# Altium schematic symbol library JAE.SchLib: 2 symbols
Pins are listed as number, name and electrical type; pins without a type are passive.

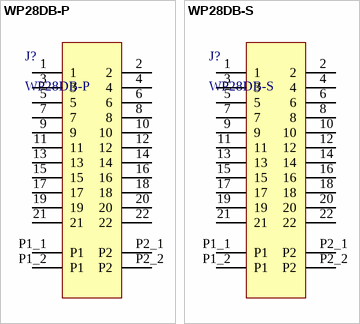
[diagram p0: symbols WP28DB-P to WP28DB-S]

## WP28DB-P
designator J?
footprint WP28DB-P
pins: 1, 2, 3, 4, 5, 6, 7, 8, 9, 10, 11, 12, 13, 14, 15, 16, 17, 18, 19, 20, 21, 22, P1_1 P1, P1_2 P1, P2_1 P2, P2_2 P2

## WP28DB-S
designator J?
footprint WP28DB-S (Connector Receptacle)
pins: 1, 2, 3, 4, 5, 6, 7, 8, 9, 10, 11, 12, 13, 14, 15, 16, 17, 18, 19, 20, 21, 22, P1_1 P1, P1_2 P1, P2_1 P2, P2_2 P2